# EAGLE library part VISM_SIP-8 (library Eagle_ISOLATED_CONVERTER (rev18c))
MagI³C-VISM Variable Isolated SIP Module Characteristics Simplest design (no transformer design know how required) Leaded through-hole package for easy manufacturing and prototyping Stand alone solution (CIN and COUT integrated, no external components) Only one external resistor required to set the VOUT ON / OFF control Pin Static and dynamic power Boost Simple functional isolation for overvoltage protection, avoiding ground loops, ground shift and noise in signal path or sensor systems Industrial standard package and pin configuration Low conducted and radiated EMI (compliant to EN55032 class B / CISPR-32) IEC/EN/UL60950 & IEC/EN/UL62368 certified Applications Data acquisition Test and measurement systems Interface and microcontroller supply Industrial control <http://katalog.we-online.de/media/images/v2/Family_WE-VISM_17791063215(2).jpg> Details see: http://katalog.we-online.de/en/pm/MAGIC-VISM Created by Yingchun,Shan,2018-11-19 2018(C) Wurth Elektronik
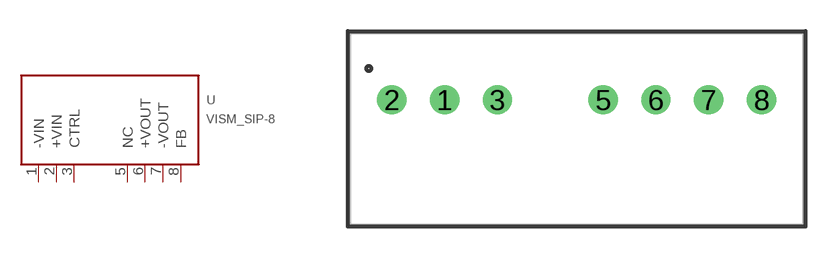
[diagram p16: symbol with the pads of VISM_SIP-8; footprint VISM_SIP-8]

Designator prefix U

## VISM_SIP-8_17791063215 (VALUE: 8-42Vin/3.3-6Vout/1W/2kV; WE-NUMBER: 17791063215)  [VISM_SIP-8]
1  -VIN  pwr
2  +VIN  pwr
3  CTRL  pas
5  NC  nc
6  +VOUT  pwr
7  -VOUT  pwr
8  FB  pas

## Footprint VISM_SIP-8 (pad centres in mm)
drill 0.9: 1 -6.35,1.4; 2 -8.89,1.4; 3 -3.81,1.4; 5 1.27,1.4; 6 3.81,1.4; 7 6.35,1.4; 8 8.89,1.4